# Altium footprint library ThroHole.PcbLib: 56 footprints (part 4 of 4)
Each footprint in its own frame and in the unit in brackets; x right, y up, seen from the top. Pads: shape width x height; smd on the part's side, far side on the other; paste and mask are expansions set on the pad; w line width, h text height; cw(c..) or ccw(c..) is an arc to the next point about the centre after c.
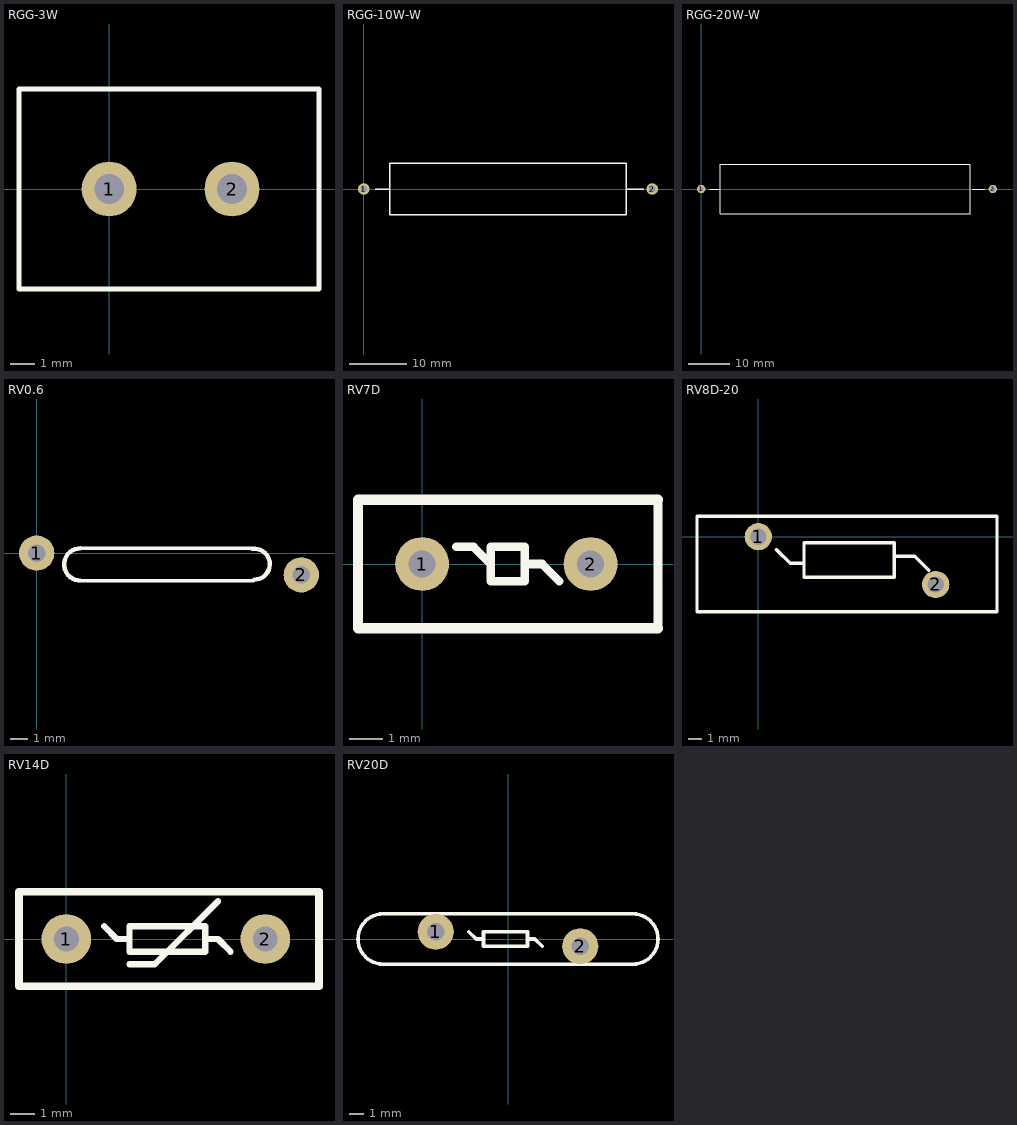
[diagram p3: the footprints below, top view; thin cyan lines are the x and y axes]

## RGG-3W [mil]
pads (2):
  round 87 hole 47: 1(0,0) 2(195,0)
Top Overlay:
  lines w8: -143,-159 -143,159 333,159 333,-159 -143,-159

## RGG-10W-W [mm]
pads (2):
  round 2 hole 1.2: 1(0,0) 2(50,0)
Top Overlay:
  lines w0.254: 2.032,0 4.318,0 ; 45.466,0 48.514,0 ; 4.524,-4.5 45.466,-4.5 45.466,4.5 4.524,4.5 4.524,-4.5

## RGG-20W-W [mm]
pads (2):
  round 2 hole 1.2: 1(0,0) 2(70,0)
Top Overlay:
  lines w0.254: 2.032,0 4.318,0 ; 65.024,0 68.072,0 ; 4.524,-6 4.524,6 64.524,6 64.524,-6 4.524,-6

## RV0.6 [mil]
pads (2):
  round 80 hole 40: 1(0,0) 2(598.42,-49.21)
Top Overlay:
  lines w7.87: 98.42,-61.97 490.19,-61.97 ; 98.42,10.83 486.65,10.83
  lines w10: 98.42,-61.98 cw(c98.42,-25.57) 98.42,10.83 ; 487.78,9.69 cw(c492.13,-25.04) 492.13,-60.04

## RV7D [mm]
pads (2):
  round 1.6 hole 0.8: 1(0,0) 2(5,0)
Top Overlay:
  lines w0.254: 1.016,0.508 1.524,0.508 2.032,0 ; 3.048,0 3.556,0 4.064,-0.508 ; 7,-1.905 7,1.905 ; 2.032,-0.508 3.048,-0.508 3.048,0.508 2.032,0.508 2.032,-0.508
  lines w0.305: 7,-1.905 -1.905,-1.905 -1.905,1.905 7,1.905
3D body: height 12.5, standoff -22.5, extent -1.833,-3.984 7.167,1.016

## RV8D-20 [mm]
pads (2):
  round 2 hole 1.2: 1(0,0) 2(13,-3.5)
Top Overlay:
  lines w0.254: 1.316,-0.936 2.332,-1.952 3.348,-1.952 ; 9.952,-1.444 11.476,-1.444 12.492,-2.46 ; -2.54,-5.5 -2.54,-5.5 ; -2.54,-5.5 15.54,-5.5 17.5,-5.5 17.5,1.5 15.54,1.5 -2.54,1.5 -4.5,1.5 -4.5,-5.5 -2.54,-5.5 ; 3.348,-2.968 3.348,-0.428 9.952,-0.428 9.952,-2.968 3.348,-2.968
3D body: height 24.75, standoff -4, extent -3.65,-3.048 16.35,0.452

## RV14D [mm]
pads (2):
  round 2 hole 1: 1(0,0) 2(8,0)
Top Overlay:
  lines w0.254: 1.524,0.508 2.032,0 2.54,0 ; 2.54,-1.016 3.556,-1.016 6.096,1.524 ; 5.588,0 6.096,0 6.604,-0.508 ; 2.54,-0.508 5.588,-0.508 5.588,0.508 2.54,0.508 2.54,-0.508
  lines w0.305: 10.16,-1.905 -1.905,-1.905 -1.905,1.905 10.16,1.905 ; 10.16,-1.8 10.16,1.8
3D body: height 20.5, standoff -2, extent -4.686,-2.997 12.306,3.302

## RV20D [mm]
pads (2):
  round 2.5 hole 1.2: 1(-5,0.5) 2(5,-0.5)
Top Overlay:
  lines w0.254: -8.7,-1.75 8.7,-1.75 ; -8.7,1.75 8.7,1.75 ; -8.636,-1.75 cw(c-8.636,0) -8.636,1.75 ; -2.714,0.508 -2.206,0 -1.698,0 ; 1.35,0 1.858,0 2.366,-0.508 ; 8.636,-1.75 ccw(c8.636,0) 8.636,1.75 ; -1.698,-0.508 1.35,-0.508 1.35,0.508 -1.698,0.508 -1.698,-0.508
3D body: height 24.75, standoff -4, extent -9.779,-1.722 10.221,1.778